# Altium footprint library SC_MSOP10.PcbLib: 1 footprints
Each footprint in its own frame and in the unit in brackets; x right, y up, seen from the top. Pads: shape width x height; smd on the part's side, far side on the other; paste and mask are expansions set on the pad; w line width, h text height; cw(c..) or ccw(c..) is an arc to the next point about the centre after c.
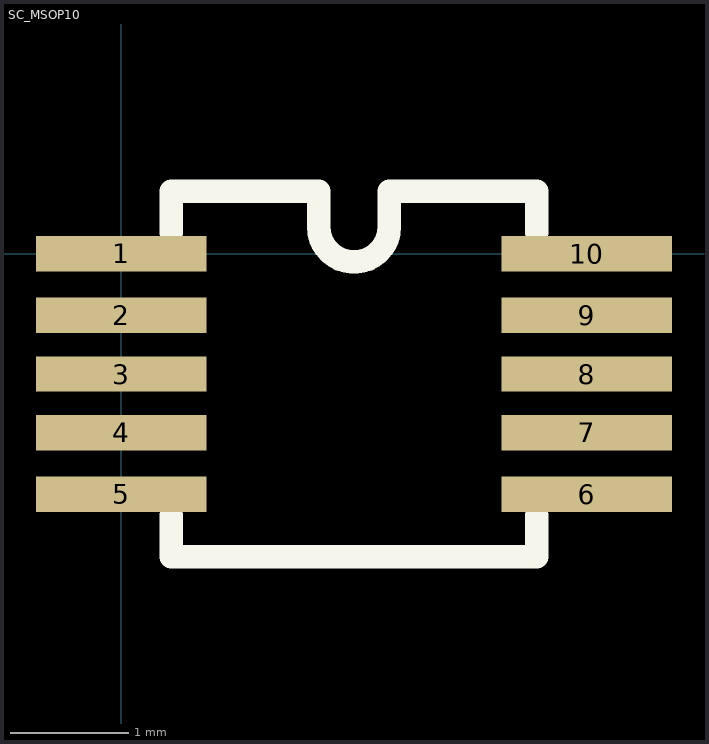
[diagram p0: the footprint, top view; thin cyan lines are the x and y axes]

## SC_MSOP10 [mm]
pads (10):
  rect 1.45x0.3 smd: 1(0,0) 2(0,-0.52) 3(0,-1.02) 4(0,-1.52) 5(0,-2.04) 6(3.95,-2.04) 7(3.95,-1.52) 8(3.95,-1.02) 9(3.95,-0.52) 10(3.95,0)
Top Overlay:
  lines w0.2: 0.425,-2.22 0.425,-2.57 3.525,-2.57 3.525,-2.22 ; 0.425,0.18 0.425,0.53 1.675,0.53 1.675,0.23 ccw(c1.975,0.23) 2.275,0.23 2.275,0.53 3.525,0.53 3.525,0.18
3D body: height 1.15, standoff 0, extent -0.475,-2.52 4.425,0.48